# Altium schematic symbol library SCH - CONNECTORS - TE 828801-3.Schlib: 1 symbol
Pins are listed as number, name and electrical type; pins without a type are passive.

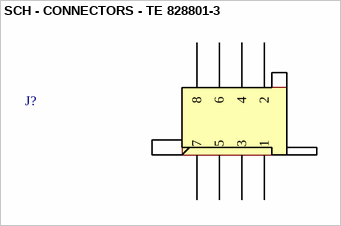
[diagram p0: symbol SCH - CONNECTORS - TE 828801-3]

## SCH - CONNECTORS - TE 828801-3
designator J?
footprint TE_828801-3 (8-pos. male conn. - left)
pins: 1, 2, 3, 4, 5, 6, 7, 8, MH1, MH2